# EAGLE library part PIC24FV08KM101 (library MCUs)
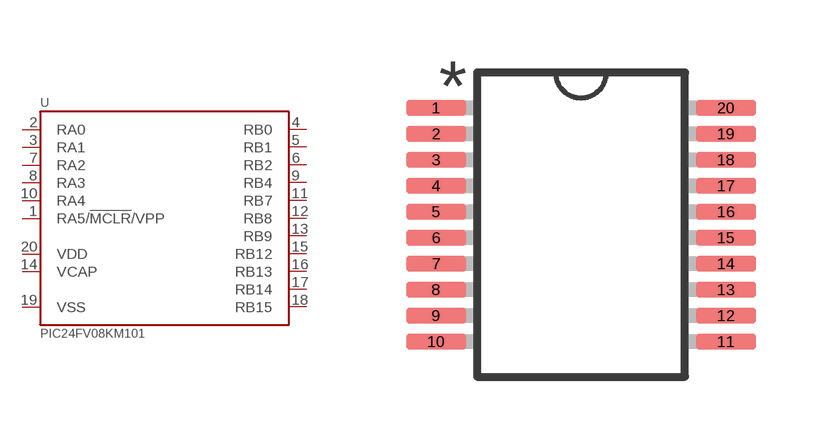
[diagram p5: symbol with the pads of SSOP-20; footprint SSOP-20]

Designator prefix U

## PIC24FV08KM101-X/SS  [SSOP-20]
1  RA5/!MCLR!/VPP
2  RA0
3  RA1
4  RB0
5  RB1
6  RB2
7  RA2
8  RA3
9  RB4
10  RA4
11  RB7
12  RB8
13  RB9
14  VCAP  sup
15  RB12
16  RB13
17  RB14
18  RB15
19  VSS  sup
20  VDD  sup

## Footprint SSOP-20 (pad centres in mm)
smd 1.5 x 0.4: 1 -3.625,2.925; 2 -3.625,2.275; 3 -3.625,1.625; 4 -3.625,0.975; 5 -3.625,0.325; 6 -3.625,-0.325; 7 -3.625,-0.975; 8 -3.625,-1.625; 9 -3.625,-2.275; 10 -3.625,-2.925; 11 3.625,-2.925; 12 3.625,-2.275; 13 3.625,-1.625; 14 3.625,-0.975; 15 3.625,-0.325; 16 3.625,0.325; 17 3.625,0.975; 18 3.625,1.625; 19 3.625,2.275; 20 3.625,2.925